# Altium integrated library 3296W-1-503LF.IntLib: 1 symbol
Pins are listed as number, name and electrical type; pins without a type are passive.

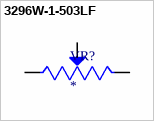
[diagram p0: symbol 3296W-1-503LF]

## 3296W-1-503LF
designator VR?
50 kOhms 0.5W, 1/2W PC Pins Through Hole Trimmer Potentiometer Cermet 25.0 Turn Top Adjustment; MF: Bourns; MP: 3296W-1-503LF; Purchase-URL: https://pricing.snapeda.com/search/part/3296W-1-503LF/?ref=eda; Value: *; SnapEDA_Link: https://www.snapeda.com/parts/3296W-1-503LF/Bourns/view-part/?ref=snap; Package: SOT-23-5 Bourns; Availability: In Stock; Price: None; Check_prices: https://www.snapeda.com/parts/3296W-1-503LF/Bourns/view-part/?ref=eda
footprint TRIM_3296W-1-503LF
pins: 1 CCW, 2 WIPER, 3 CW